# Altium footprint library PAN1322-SPP.PcbLib: 1 footprints
Each footprint in its own frame and in the unit in brackets; x right, y up, seen from the top. Pads: shape width x height; smd on the part's side, far side on the other; paste and mask are expansions set on the pad; w line width, h text height; cw(c..) or ccw(c..) is an arc to the next point about the centre after c.
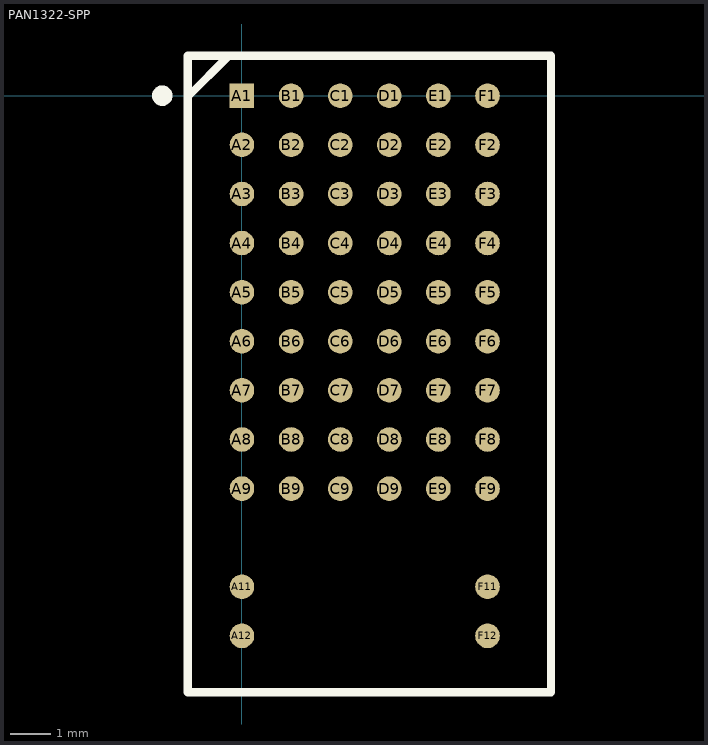
[diagram p0: the footprint, top view; thin cyan lines are the x and y axes]

## PAN1322-SPP [mm]
height 1.05
pads (58):
  rect 0.6x0.6 smd: A1(0,0)
  round 0.6 smd: A2(0,-1.2) A3(0,-2.4) A4(0,-3.6) A5(0,-4.8) A6(0,-6) A7(0,-7.2) A8(0,-8.4) A9(0,-9.6) A11(0,-12) A12(0,-13.2) B1(1.2,0) B2(1.2,-1.2) B3(1.2,-2.4) B4(1.2,-3.6) B5(1.2,-4.8) B6(1.2,-6) B7(1.2,-7.2) B8(1.2,-8.4) B9(1.2,-9.6) C1(2.4,0) C2(2.4,-1.2) C3(2.4,-2.4) C4(2.4,-3.6) C5(2.4,-4.8) C6(2.4,-6) C7(2.4,-7.2) C8(2.4,-8.4) C9(2.4,-9.6) D1(3.6,0) D2(3.6,-1.2) D3(3.6,-2.4) D4(3.6,-3.6) D5(3.6,-4.8) D6(3.6,-6) D7(3.6,-7.2) D8(3.6,-8.4) D9(3.6,-9.6) E1(4.8,0) E2(4.8,-1.2) E3(4.8,-2.4) E4(4.8,-3.6) E5(4.8,-4.8) E6(4.8,-6) E7(4.8,-7.2) E8(4.8,-8.4) E9(4.8,-9.6) F1(6,0) F2(6,-1.2) F3(6,-2.4) F4(6,-3.6) F5(6,-4.8) F6(6,-6) F7(6,-7.2) F8(6,-8.4) F9(6,-9.6) F11(6,-12) F12(6,-13.2)
Top Overlay:
  circle w0.25: c-1.95,0 r0.125
  lines w0.2: -1.325,-0.025 -0.325,0.975 ; -1.325,-14.575 -1.325,0.975 7.55,0.975 7.55,-14.575 -1.325,-14.575
3D body: height 1.05, standoff 0.25, extent -1.35,-14.6 7.55,1